# Altium integrated library inductor-nkl.IntLib: 194 symbols
Pins are listed as number, name and electrical type; pins without a type are passive.

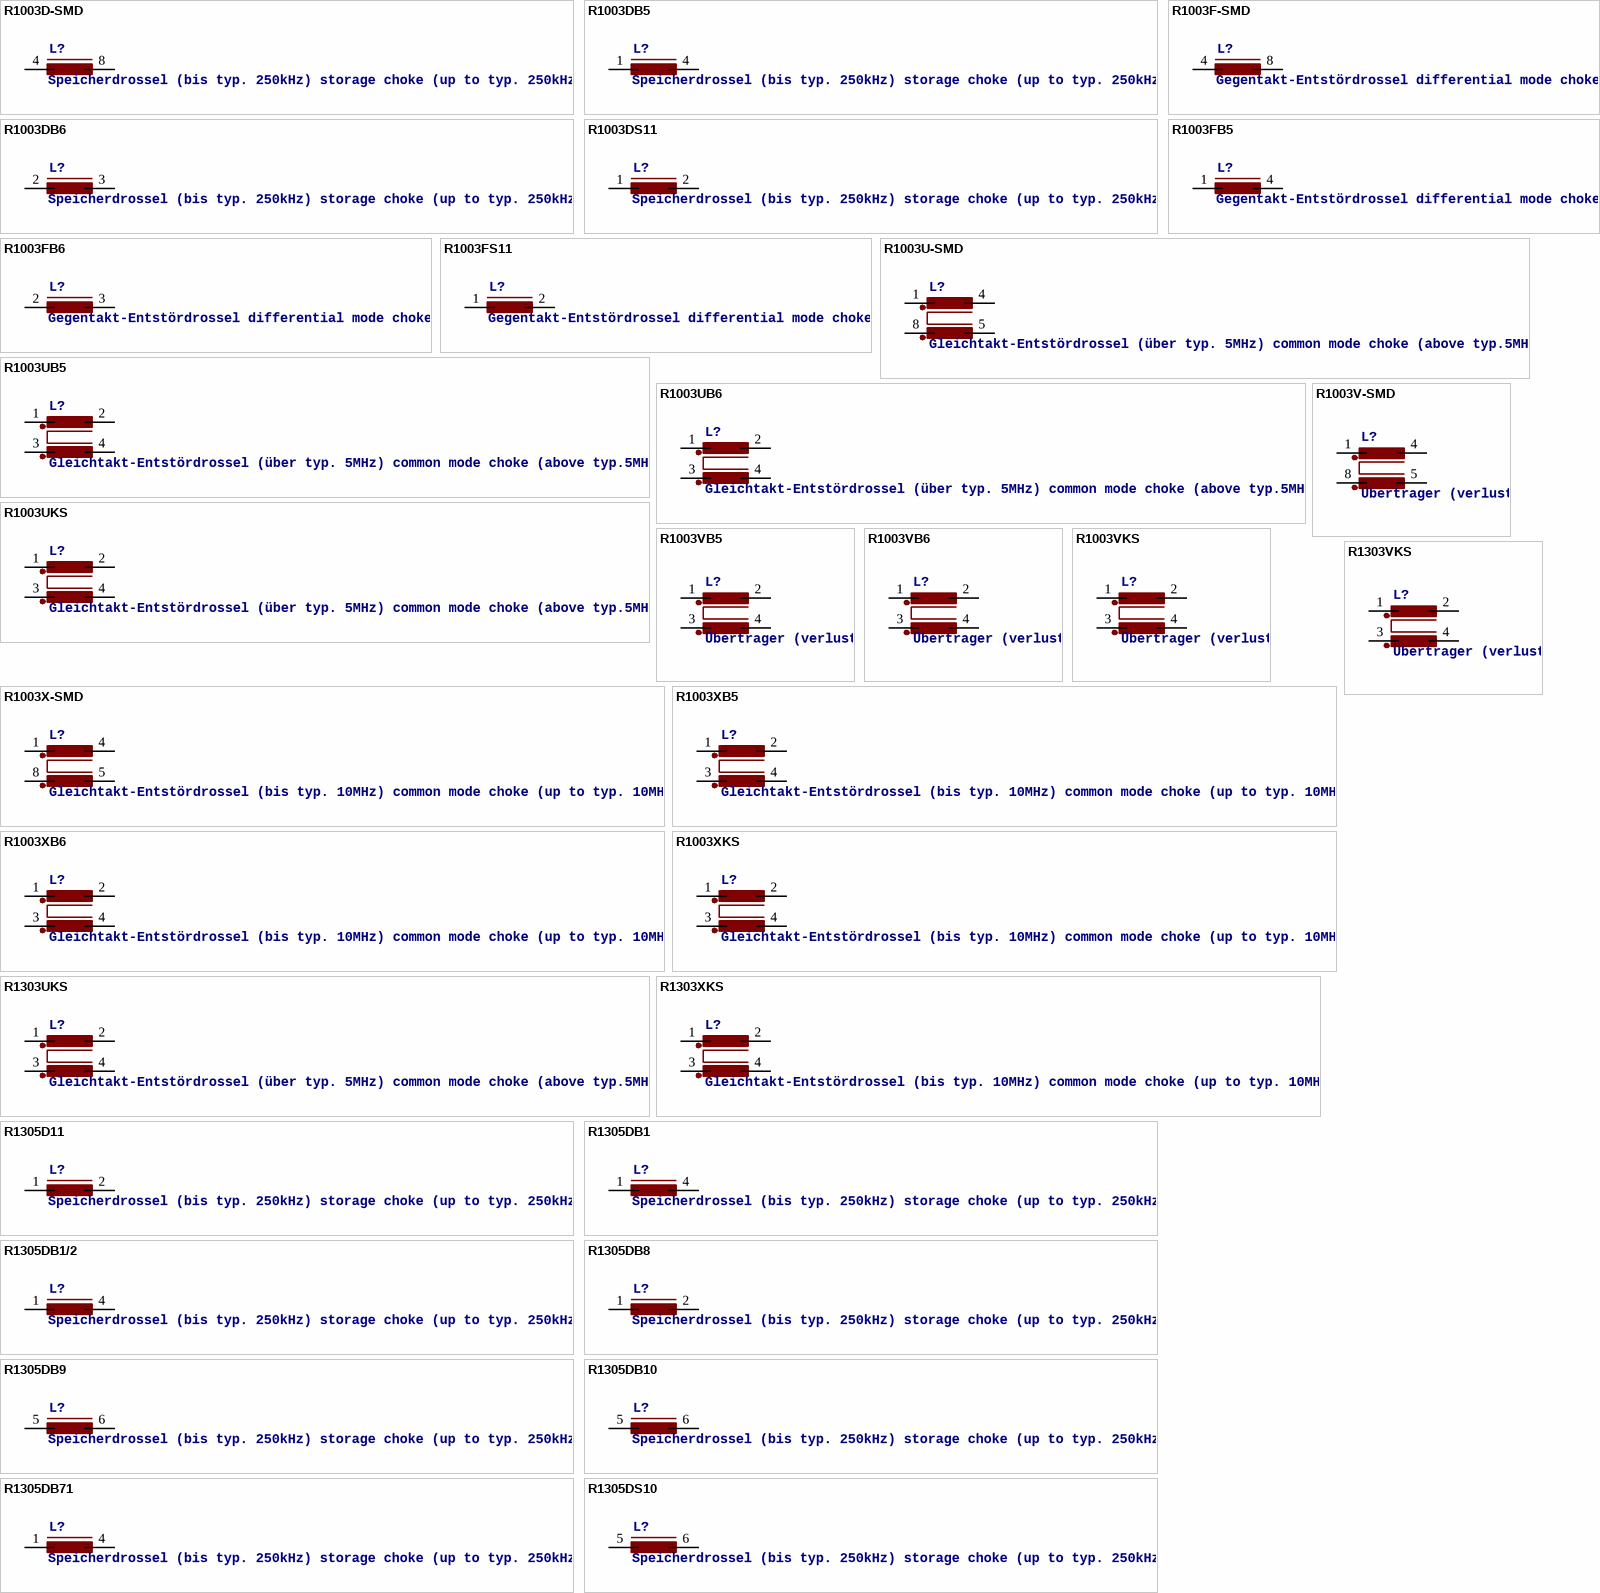
[diagram p0: symbols R1003D-SMD to R1305DS10]

## R1003D-SMD
designator L?, comment Speicherdrossel (bis typ. 250kHz) storage choke (up to typ. 250kHz)
OC_FARNELL: unknown; OC_NEWARK: unknown
footprint SMD
pins: 4 1, 8 2

## R1003DB5
designator L?, comment Speicherdrossel (bis typ. 250kHz) storage choke (up to typ. 250kHz)
OC_FARNELL: unknown; OC_NEWARK: unknown
footprint B5
pins: 1, 4 2

## R1003DB6
designator L?, comment Speicherdrossel (bis typ. 250kHz) storage choke (up to typ. 250kHz)
OC_FARNELL: unknown; OC_NEWARK: unknown
footprint B6
pins: 2 1, 3 2

## R1003DS11
designator L?, comment Speicherdrossel (bis typ. 250kHz) storage choke (up to typ. 250kHz)
OC_FARNELL: unknown; OC_NEWARK: unknown
footprint S11-10
pins: 1, 2

## R1003F-SMD
designator L?, comment Gegentakt-Entstördrossel differential mode choke
OC_FARNELL: unknown; OC_NEWARK: unknown
footprint SMD
pins: 4 1, 8 2

## R1003FB5
designator L?, comment Gegentakt-Entstördrossel differential mode choke
OC_FARNELL: unknown; OC_NEWARK: unknown
footprint B5
pins: 1, 4 2

## R1003FB6
designator L?, comment Gegentakt-Entstördrossel differential mode choke
OC_FARNELL: unknown; OC_NEWARK: unknown
footprint B6
pins: 2 1, 3 2

## R1003FS11
designator L?, comment Gegentakt-Entstördrossel differential mode choke
OC_FARNELL: unknown; OC_NEWARK: unknown
footprint S11-10
pins: 1, 2

## R1003U-SMD
designator L?, comment Gleichtakt-Entstördrossel (über typ. 5MHz) common mode choke (above typ.5MHz)
OC_FARNELL: unknown; OC_NEWARK: unknown
footprint SMD
pins: 1, 4 2, 5 4, 8 3

## R1003UB5
designator L?, comment Gleichtakt-Entstördrossel (über typ. 5MHz) common mode choke (above typ.5MHz)
OC_FARNELL: unknown; OC_NEWARK: unknown
footprint B5
pins: 1, 2, 3, 4

## R1003UB6
designator L?, comment Gleichtakt-Entstördrossel (über typ. 5MHz) common mode choke (above typ.5MHz)
OC_FARNELL: unknown; OC_NEWARK: unknown
footprint B6
pins: 1, 2, 3, 4

## R1003UKS
designator L?, comment Gleichtakt-Entstördrossel (über typ. 5MHz) common mode choke (above typ.5MHz)
OC_FARNELL: unknown; OC_NEWARK: unknown
footprint KS1003
pins: 1, 2, 3, 4

## R1003V-SMD
designator L?, comment Übertrager (verlustarm) bis typ. 400kHz Power transformer (low loss) up to typ. 400kHz
OC_FARNELL: unknown; OC_NEWARK: unknown
footprint SMD
pins: 1, 4 2, 5 4, 8 3

## R1003VB5
designator L?, comment Übertrager (verlustarm) bis typ. 400kHz Power transformer (low loss) up to typ. 400kHz
OC_FARNELL: unknown; OC_NEWARK: unknown
footprint B5
pins: 1, 2, 3, 4

## R1003VB6
designator L?, comment Übertrager (verlustarm) bis typ. 400kHz Power transformer (low loss) up to typ. 400kHz
OC_FARNELL: unknown; OC_NEWARK: unknown
footprint B6
pins: 1, 2, 3, 4

## R1003VKS
designator L?, comment Übertrager (verlustarm) bis typ. 400kHz Power transformer (low loss) up to typ. 400kHz
OC_FARNELL: unknown; OC_NEWARK: unknown
footprint KS1003
pins: 1, 2, 3, 4

## R1003X-SMD
designator L?, comment Gleichtakt-Entstördrossel (bis typ. 10MHz) common mode choke (up to typ. 10MHz)
OC_FARNELL: unknown; OC_NEWARK: unknown
footprint SMD
pins: 1, 4 2, 5 4, 8 3

## R1003XB5
designator L?, comment Gleichtakt-Entstördrossel (bis typ. 10MHz) common mode choke (up to typ. 10MHz)
OC_FARNELL: unknown; OC_NEWARK: unknown
footprint B5
pins: 1, 2, 3, 4

## R1003XB6
designator L?, comment Gleichtakt-Entstördrossel (bis typ. 10MHz) common mode choke (up to typ. 10MHz)
OC_FARNELL: unknown; OC_NEWARK: unknown
footprint B6
pins: 1, 2, 3, 4

## R1003XKS
designator L?, comment Gleichtakt-Entstördrossel (bis typ. 10MHz) common mode choke (up to typ. 10MHz)
OC_FARNELL: unknown; OC_NEWARK: unknown
footprint KS1003
pins: 1, 2, 3, 4

## R1303UKS
designator L?, comment Gleichtakt-Entstördrossel (über typ. 5MHz) common mode choke (above typ.5MHz)
OC_FARNELL: unknown; OC_NEWARK: unknown
footprint KS1303
pins: 1, 2, 3, 4

## R1303VKS
designator L?, comment Übertrager (verlustarm) bis typ. 400kHz Power transformer (low loss) up to typ. 400kHz
OC_FARNELL: unknown; OC_NEWARK: unknown
footprint KS1303
pins: 1, 2, 3, 4

## R1303XKS
designator L?, comment Gleichtakt-Entstördrossel (bis typ. 10MHz) common mode choke (up to typ. 10MHz)
OC_FARNELL: unknown; OC_NEWARK: unknown
footprint KS1303
pins: 1, 2, 3, 4

## R1305D11
designator L?, comment Speicherdrossel (bis typ. 250kHz) storage choke (up to typ. 250kHz)
OC_FARNELL: unknown; OC_NEWARK: unknown
footprint 11-13
pins: 1, 2

## R1305DB1
designator L?, comment Speicherdrossel (bis typ. 250kHz) storage choke (up to typ. 250kHz)
OC_FARNELL: unknown; OC_NEWARK: unknown
footprint B1
pins: 1, 4 2

## R1305DB1/2
designator L?, comment Speicherdrossel (bis typ. 250kHz) storage choke (up to typ. 250kHz)
OC_FARNELL: unknown; OC_NEWARK: unknown
footprint B1/2
pins: 1, 4 2

## R1305DB8
designator L?, comment Speicherdrossel (bis typ. 250kHz) storage choke (up to typ. 250kHz)
OC_FARNELL: unknown; OC_NEWARK: unknown
footprint B8
pins: 1, 2

## R1305DB9
designator L?, comment Speicherdrossel (bis typ. 250kHz) storage choke (up to typ. 250kHz)
OC_FARNELL: unknown; OC_NEWARK: unknown
footprint B9
pins: 5 1, 6 2

## R1305DB10
designator L?, comment Speicherdrossel (bis typ. 250kHz) storage choke (up to typ. 250kHz)
OC_FARNELL: unknown; OC_NEWARK: unknown
footprint B10
pins: 5 1, 6 2

## R1305DB71
designator L?, comment Speicherdrossel (bis typ. 250kHz) storage choke (up to typ. 250kHz)
OC_FARNELL: unknown; OC_NEWARK: unknown
footprint B71
pins: 1, 4 2

## R1305DS10
designator L?, comment Speicherdrossel (bis typ. 250kHz) storage choke (up to typ. 250kHz)
OC_FARNELL: unknown; OC_NEWARK: unknown
footprint S10
pins: 5 1, 6 2

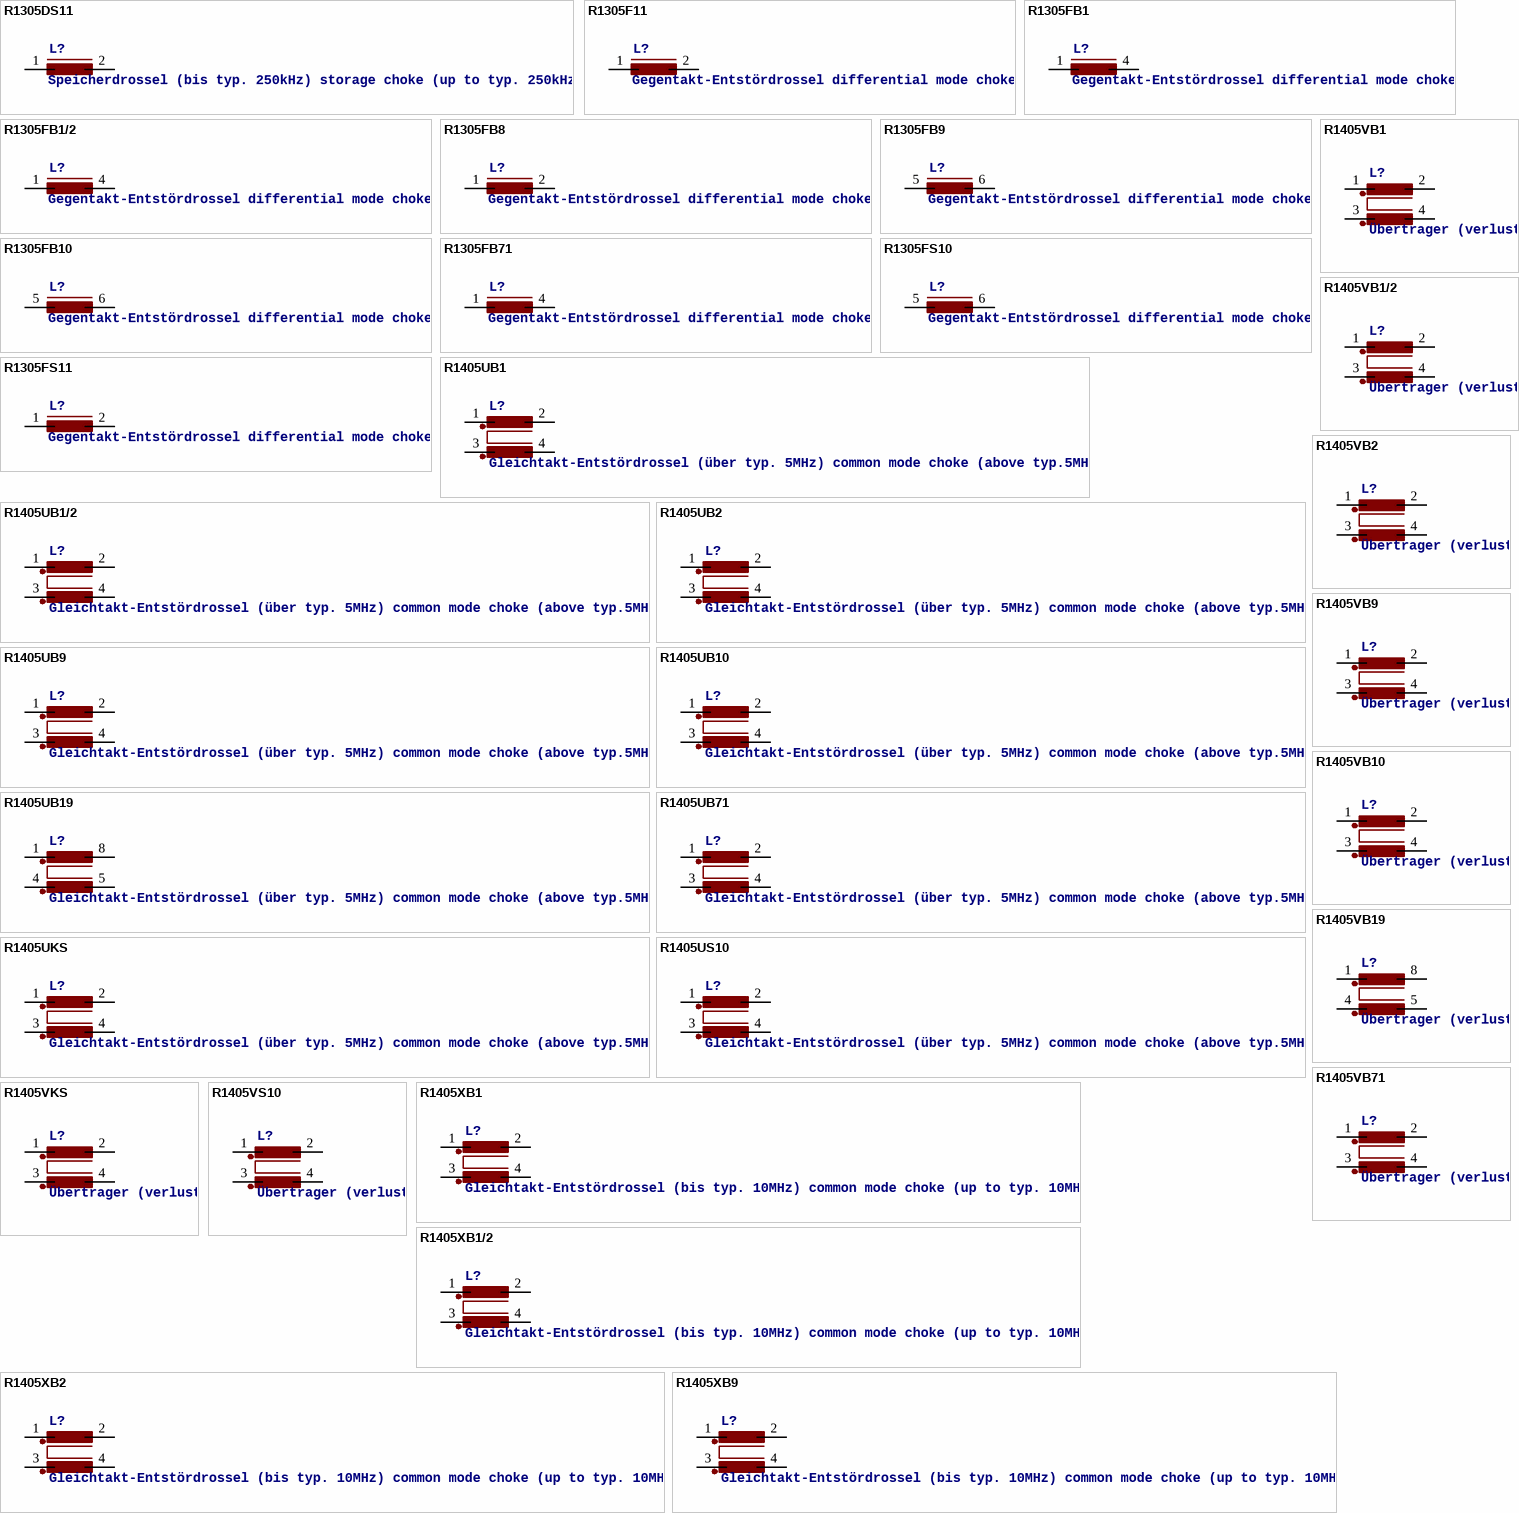
[diagram p1: symbols R1305DS11 to R1405XB9]

## R1305DS11
designator L?, comment Speicherdrossel (bis typ. 250kHz) storage choke (up to typ. 250kHz)
OC_FARNELL: unknown; OC_NEWARK: unknown
footprint S11-13
pins: 1, 2

## R1305F11
designator L?, comment Gegentakt-Entstördrossel differential mode choke
OC_FARNELL: unknown; OC_NEWARK: unknown
footprint 11-13
pins: 1, 2

## R1305FB1
designator L?, comment Gegentakt-Entstördrossel differential mode choke
OC_FARNELL: unknown; OC_NEWARK: unknown
footprint B1
pins: 1, 4 2

## R1305FB1/2
designator L?, comment Gegentakt-Entstördrossel differential mode choke
OC_FARNELL: unknown; OC_NEWARK: unknown
footprint B1/2
pins: 1, 4 2

## R1305FB8
designator L?, comment Gegentakt-Entstördrossel differential mode choke
OC_FARNELL: unknown; OC_NEWARK: unknown
footprint B8
pins: 1, 2

## R1305FB9
designator L?, comment Gegentakt-Entstördrossel differential mode choke
OC_FARNELL: unknown; OC_NEWARK: unknown
footprint B9
pins: 5 1, 6 2

## R1305FB10
designator L?, comment Gegentakt-Entstördrossel differential mode choke
OC_FARNELL: unknown; OC_NEWARK: unknown
footprint B10
pins: 5 1, 6 2

## R1305FB71
designator L?, comment Gegentakt-Entstördrossel differential mode choke
OC_FARNELL: unknown; OC_NEWARK: unknown
footprint B71
pins: 1, 4 2

## R1305FS10
designator L?, comment Gegentakt-Entstördrossel differential mode choke
OC_FARNELL: unknown; OC_NEWARK: unknown
footprint S10
pins: 5 1, 6 2

## R1305FS11
designator L?, comment Gegentakt-Entstördrossel differential mode choke
OC_FARNELL: unknown; OC_NEWARK: unknown
footprint S11-13
pins: 1, 2

## R1405UB1
designator L?, comment Gleichtakt-Entstördrossel (über typ. 5MHz) common mode choke (above typ.5MHz)
OC_FARNELL: unknown; OC_NEWARK: unknown
footprint B1
pins: 1, 2, 3, 4

## R1405UB1/2
designator L?, comment Gleichtakt-Entstördrossel (über typ. 5MHz) common mode choke (above typ.5MHz)
OC_FARNELL: unknown; OC_NEWARK: unknown
footprint B1/2
pins: 1, 2, 3, 4

## R1405UB2
designator L?, comment Gleichtakt-Entstördrossel (über typ. 5MHz) common mode choke (above typ.5MHz)
OC_FARNELL: unknown; OC_NEWARK: unknown
footprint B2
pins: 1, 2, 3, 4

## R1405UB9
designator L?, comment Gleichtakt-Entstördrossel (über typ. 5MHz) common mode choke (above typ.5MHz)
OC_FARNELL: unknown; OC_NEWARK: unknown
footprint B9
pins: 1, 2, 3, 4

## R1405UB10
designator L?, comment Gleichtakt-Entstördrossel (über typ. 5MHz) common mode choke (above typ.5MHz)
OC_FARNELL: unknown; OC_NEWARK: unknown
footprint B10
pins: 1, 2, 3, 4

## R1405UB19
designator L?, comment Gleichtakt-Entstördrossel (über typ. 5MHz) common mode choke (above typ.5MHz)
OC_FARNELL: unknown; OC_NEWARK: unknown
footprint B19
pins: 1, 4 3, 5 4, 8 2

## R1405UB71
designator L?, comment Gleichtakt-Entstördrossel (über typ. 5MHz) common mode choke (above typ.5MHz)
OC_FARNELL: unknown; OC_NEWARK: unknown
footprint B71
pins: 1, 2, 3, 4

## R1405UKS
designator L?, comment Gleichtakt-Entstördrossel (über typ. 5MHz) common mode choke (above typ.5MHz)
OC_FARNELL: unknown; OC_NEWARK: unknown
footprint KS1405
pins: 1, 2, 3, 4

## R1405US10
designator L?, comment Gleichtakt-Entstördrossel (über typ. 5MHz) common mode choke (above typ.5MHz)
OC_FARNELL: unknown; OC_NEWARK: unknown
footprint S10
pins: 1, 2, 3, 4

## R1405VB1
designator L?, comment Übertrager (verlustarm) bis typ. 400kHz Power transformer (low loss) up to typ. 400kHz
OC_FARNELL: unknown; OC_NEWARK: unknown
footprint B1
pins: 1, 2, 3, 4

## R1405VB1/2
designator L?, comment Übertrager (verlustarm) bis typ. 400kHz Power transformer (low loss) up to typ. 400kHz
OC_FARNELL: unknown; OC_NEWARK: unknown
footprint B1/2
pins: 1, 2, 3, 4

## R1405VB2
designator L?, comment Übertrager (verlustarm) bis typ. 400kHz Power transformer (low loss) up to typ. 400kHz
OC_FARNELL: unknown; OC_NEWARK: unknown
footprint B2
pins: 1, 2, 3, 4

## R1405VB9
designator L?, comment Übertrager (verlustarm) bis typ. 400kHz Power transformer (low loss) up to typ. 400kHz
OC_FARNELL: unknown; OC_NEWARK: unknown
footprint B9
pins: 1, 2, 3, 4

## R1405VB10
designator L?, comment Übertrager (verlustarm) bis typ. 400kHz Power transformer (low loss) up to typ. 400kHz
OC_FARNELL: unknown; OC_NEWARK: unknown
footprint B10
pins: 1, 2, 3, 4

## R1405VB19
designator L?, comment Übertrager (verlustarm) bis typ. 400kHz Power transformer (low loss) up to typ. 400kHz
OC_FARNELL: unknown; OC_NEWARK: unknown
footprint B19
pins: 1, 4 3, 5 4, 8 2

## R1405VB71
designator L?, comment Übertrager (verlustarm) bis typ. 400kHz Power transformer (low loss) up to typ. 400kHz
OC_FARNELL: unknown; OC_NEWARK: unknown
footprint B71
pins: 1, 2, 3, 4

## R1405VKS
designator L?, comment Übertrager (verlustarm) bis typ. 400kHz Power transformer (low loss) up to typ. 400kHz
OC_FARNELL: unknown; OC_NEWARK: unknown
footprint KS1405
pins: 1, 2, 3, 4

## R1405VS10
designator L?, comment Übertrager (verlustarm) bis typ. 400kHz Power transformer (low loss) up to typ. 400kHz
OC_FARNELL: unknown; OC_NEWARK: unknown
footprint S10
pins: 1, 2, 3, 4

## R1405XB1
designator L?, comment Gleichtakt-Entstördrossel (bis typ. 10MHz) common mode choke (up to typ. 10MHz)
OC_FARNELL: unknown; OC_NEWARK: unknown
footprint B1
pins: 1, 2, 3, 4

## R1405XB1/2
designator L?, comment Gleichtakt-Entstördrossel (bis typ. 10MHz) common mode choke (up to typ. 10MHz)
OC_FARNELL: unknown; OC_NEWARK: unknown
footprint B1/2
pins: 1, 2, 3, 4

## R1405XB2
designator L?, comment Gleichtakt-Entstördrossel (bis typ. 10MHz) common mode choke (up to typ. 10MHz)
OC_FARNELL: unknown; OC_NEWARK: unknown
footprint B2
pins: 1, 2, 3, 4

## R1405XB9
designator L?, comment Gleichtakt-Entstördrossel (bis typ. 10MHz) common mode choke (up to typ. 10MHz)
OC_FARNELL: unknown; OC_NEWARK: unknown
footprint B9
pins: 1, 2, 3, 4

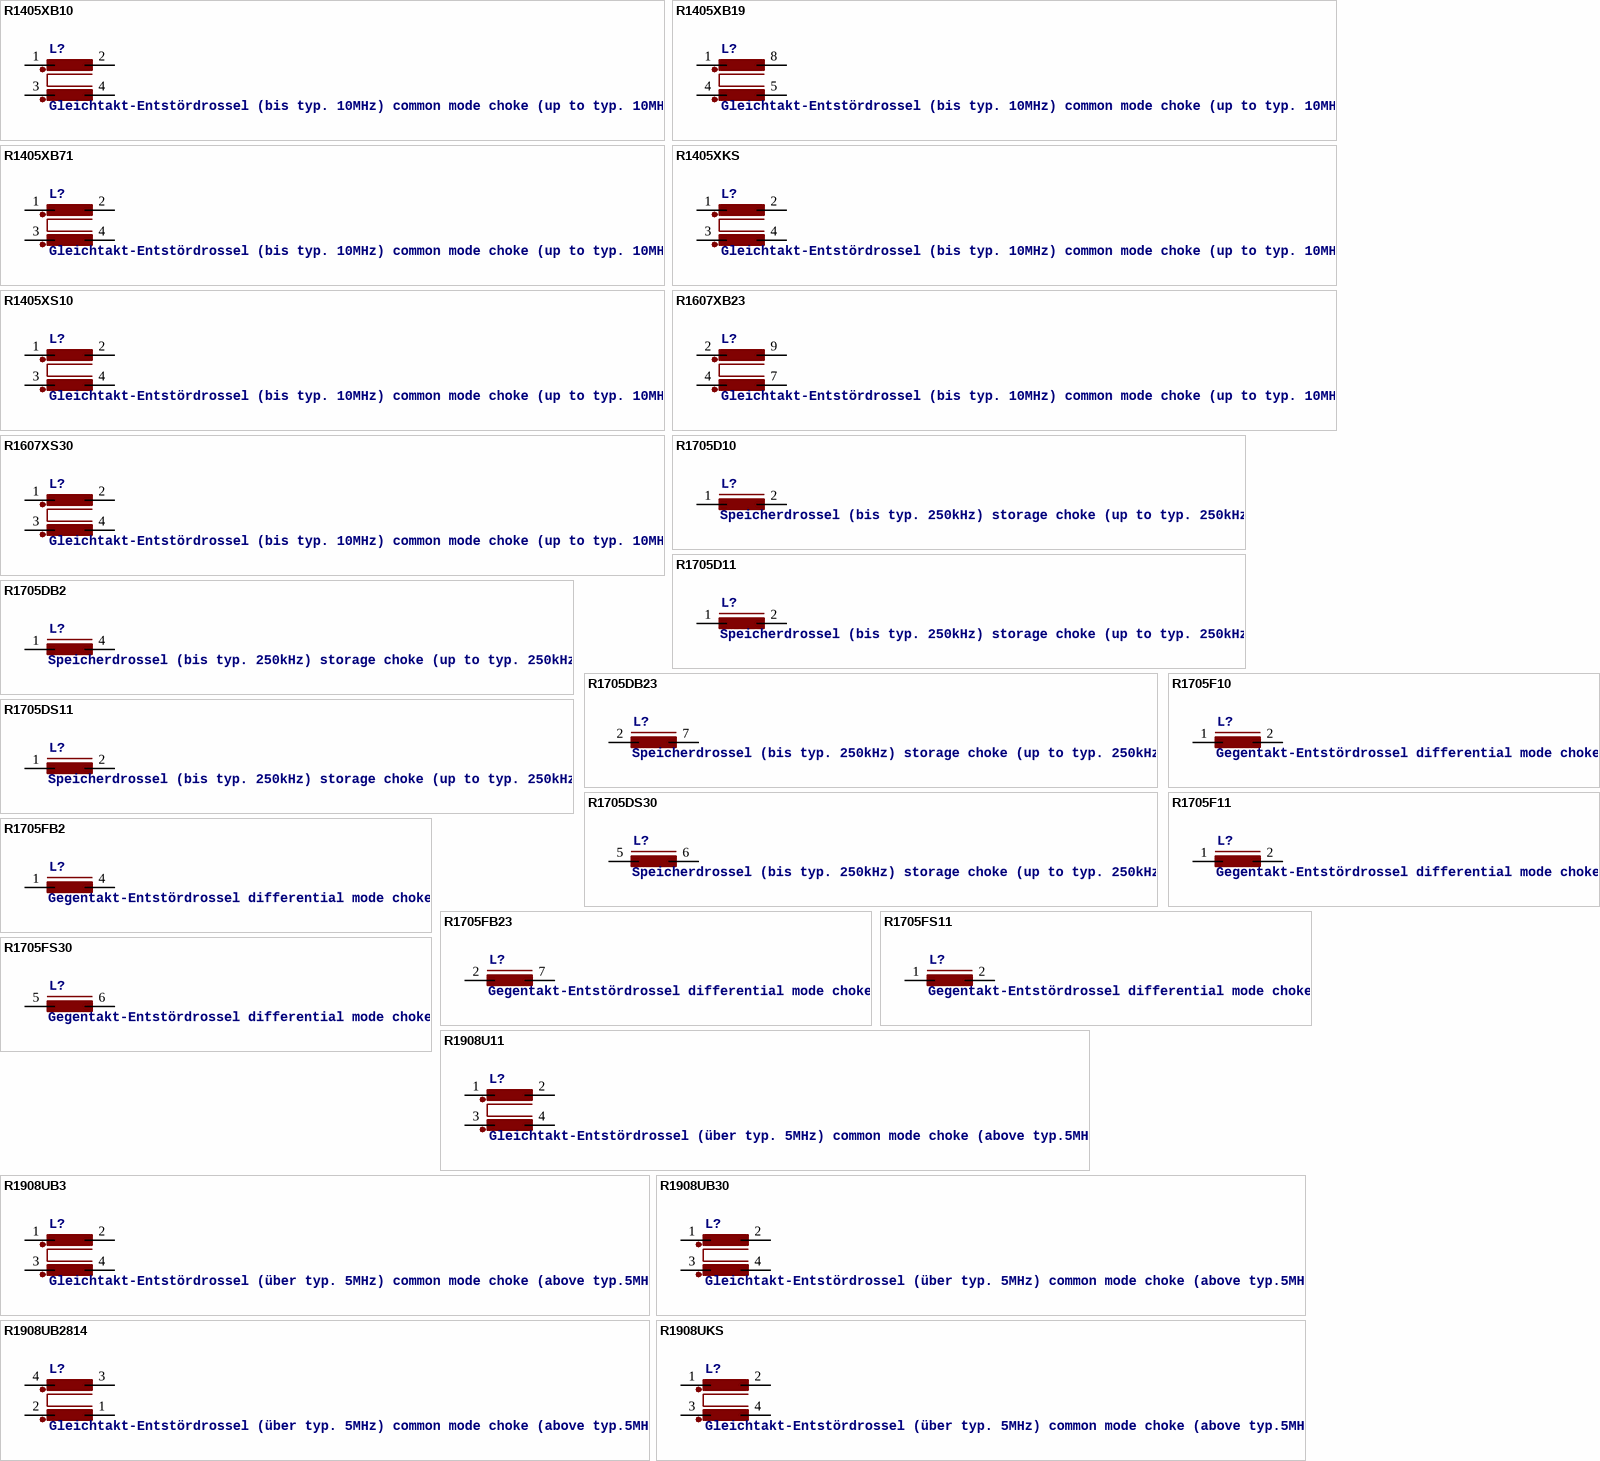
[diagram p2: symbols R1405XB10 to R1908UKS]

## R1405XB10
designator L?, comment Gleichtakt-Entstördrossel (bis typ. 10MHz) common mode choke (up to typ. 10MHz)
OC_FARNELL: unknown; OC_NEWARK: unknown
footprint B10
pins: 1, 2, 3, 4

## R1405XB19
designator L?, comment Gleichtakt-Entstördrossel (bis typ. 10MHz) common mode choke (up to typ. 10MHz)
OC_FARNELL: unknown; OC_NEWARK: unknown
footprint B19
pins: 1, 4 3, 5 4, 8 2

## R1405XB71
designator L?, comment Gleichtakt-Entstördrossel (bis typ. 10MHz) common mode choke (up to typ. 10MHz)
OC_FARNELL: unknown; OC_NEWARK: unknown
footprint B71
pins: 1, 2, 3, 4

## R1405XKS
designator L?, comment Gleichtakt-Entstördrossel (bis typ. 10MHz) common mode choke (up to typ. 10MHz)
OC_FARNELL: unknown; OC_NEWARK: unknown
footprint KS1405
pins: 1, 2, 3, 4

## R1405XS10
designator L?, comment Gleichtakt-Entstördrossel (bis typ. 10MHz) common mode choke (up to typ. 10MHz)
OC_FARNELL: unknown; OC_NEWARK: unknown
footprint S10
pins: 1, 2, 3, 4

## R1607XB23
designator L?, comment Gleichtakt-Entstördrossel (bis typ. 10MHz) common mode choke (up to typ. 10MHz)
OC_FARNELL: unknown; OC_NEWARK: unknown
footprint B23
pins: 2 1, 4 3, 7 4, 9 2

## R1607XS30
designator L?, comment Gleichtakt-Entstördrossel (bis typ. 10MHz) common mode choke (up to typ. 10MHz)
OC_FARNELL: unknown; OC_NEWARK: unknown
footprint S30
pins: 1, 2, 3, 4

## R1705D10
designator L?, comment Speicherdrossel (bis typ. 250kHz) storage choke (up to typ. 250kHz)
OC_FARNELL: unknown; OC_NEWARK: unknown
footprint 10-17
pins: 1, 2

## R1705D11
designator L?, comment Speicherdrossel (bis typ. 250kHz) storage choke (up to typ. 250kHz)
OC_FARNELL: unknown; OC_NEWARK: unknown
footprint 11-17
pins: 1, 2

## R1705DB2
designator L?, comment Speicherdrossel (bis typ. 250kHz) storage choke (up to typ. 250kHz)
OC_FARNELL: unknown; OC_NEWARK: unknown
footprint B2
pins: 1, 4 2

## R1705DB23
designator L?, comment Speicherdrossel (bis typ. 250kHz) storage choke (up to typ. 250kHz)
OC_FARNELL: unknown; OC_NEWARK: unknown
footprint B23
pins: 2 1, 7 2

## R1705DS11
designator L?, comment Speicherdrossel (bis typ. 250kHz) storage choke (up to typ. 250kHz)
OC_FARNELL: unknown; OC_NEWARK: unknown
footprint S11-17
pins: 1, 2

## R1705DS30
designator L?, comment Speicherdrossel (bis typ. 250kHz) storage choke (up to typ. 250kHz)
OC_FARNELL: unknown; OC_NEWARK: unknown
footprint S30
pins: 5 1, 6 2

## R1705F10
designator L?, comment Gegentakt-Entstördrossel differential mode choke
OC_FARNELL: unknown; OC_NEWARK: unknown
footprint 10-17
pins: 1, 2

## R1705F11
designator L?, comment Gegentakt-Entstördrossel differential mode choke
OC_FARNELL: unknown; OC_NEWARK: unknown
footprint 11-17
pins: 1, 2

## R1705FB2
designator L?, comment Gegentakt-Entstördrossel differential mode choke
OC_FARNELL: unknown; OC_NEWARK: unknown
footprint B2
pins: 1, 4 2

## R1705FB23
designator L?, comment Gegentakt-Entstördrossel differential mode choke
OC_FARNELL: unknown; OC_NEWARK: unknown
footprint B23
pins: 2 1, 7 2

## R1705FS11
designator L?, comment Gegentakt-Entstördrossel differential mode choke
OC_FARNELL: unknown; OC_NEWARK: unknown
footprint S11-17
pins: 1, 2

## R1705FS30
designator L?, comment Gegentakt-Entstördrossel differential mode choke
OC_FARNELL: unknown; OC_NEWARK: unknown
footprint S30
pins: 5 1, 6 2

## R1908U11
designator L?, comment Gleichtakt-Entstördrossel (über typ. 5MHz) common mode choke (above typ.5MHz)
OC_FARNELL: unknown; OC_NEWARK: unknown
footprint 11-19
pins: 1, 2, 3, 4

## R1908UB3
designator L?, comment Gleichtakt-Entstördrossel (über typ. 5MHz) common mode choke (above typ.5MHz)
OC_FARNELL: unknown; OC_NEWARK: unknown
footprint B3
pins: 1, 2, 3, 4

## R1908UB30
designator L?, comment Gleichtakt-Entstördrossel (über typ. 5MHz) common mode choke (above typ.5MHz)
OC_FARNELL: unknown; OC_NEWARK: unknown
footprint B30
pins: 1, 2, 3, 4

## R1908UB2814
designator L?, comment Gleichtakt-Entstördrossel (über typ. 5MHz) common mode choke (above typ.5MHz)
OC_FARNELL: unknown; OC_NEWARK: unknown
footprint B2814
pins: 1 4, 2 3, 3 2, 4 1

## R1908UKS
designator L?, comment Gleichtakt-Entstördrossel (über typ. 5MHz) common mode choke (above typ.5MHz)
OC_FARNELL: unknown; OC_NEWARK: unknown
footprint KS1908
pins: 1, 2, 3, 4

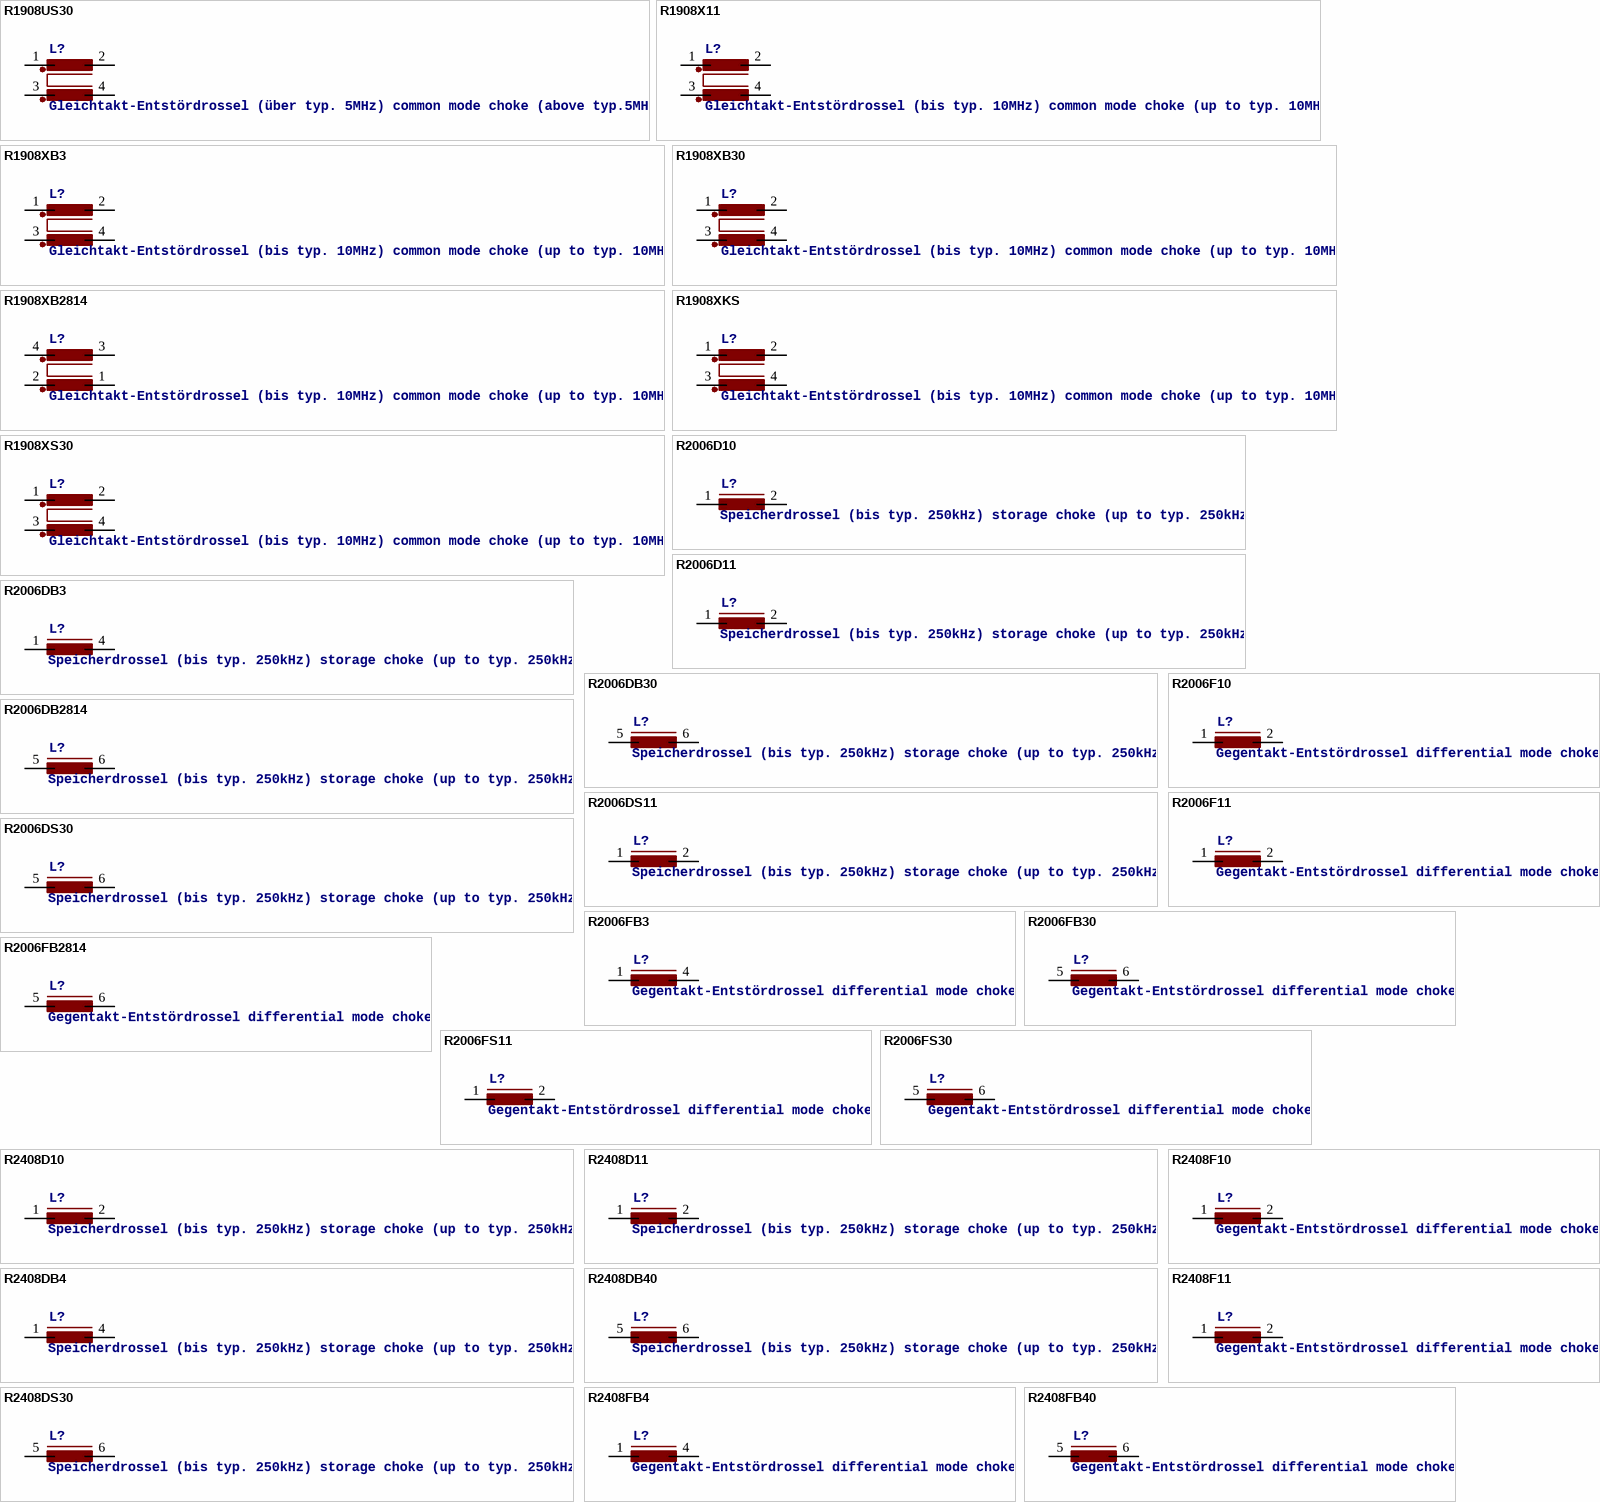
[diagram p3: symbols R1908US30 to R2408FB40]

## R1908US30
designator L?, comment Gleichtakt-Entstördrossel (über typ. 5MHz) common mode choke (above typ.5MHz)
OC_FARNELL: unknown; OC_NEWARK: unknown
footprint S30
pins: 1, 2, 3, 4

## R1908X11
designator L?, comment Gleichtakt-Entstördrossel (bis typ. 10MHz) common mode choke (up to typ. 10MHz)
OC_FARNELL: unknown; OC_NEWARK: unknown
footprint 11-19
pins: 1, 2, 3, 4

## R1908XB3
designator L?, comment Gleichtakt-Entstördrossel (bis typ. 10MHz) common mode choke (up to typ. 10MHz)
OC_FARNELL: unknown; OC_NEWARK: unknown
footprint B3
pins: 1, 2, 3, 4

## R1908XB30
designator L?, comment Gleichtakt-Entstördrossel (bis typ. 10MHz) common mode choke (up to typ. 10MHz)
OC_FARNELL: unknown; OC_NEWARK: unknown
footprint B30
pins: 1, 2, 3, 4

## R1908XB2814
designator L?, comment Gleichtakt-Entstördrossel (bis typ. 10MHz) common mode choke (up to typ. 10MHz)
OC_FARNELL: unknown; OC_NEWARK: unknown
footprint B2814
pins: 1 4, 2 3, 3 2, 4 1

## R1908XKS
designator L?, comment Gleichtakt-Entstördrossel (bis typ. 10MHz) common mode choke (up to typ. 10MHz)
OC_FARNELL: unknown; OC_NEWARK: unknown
footprint KS1908
pins: 1, 2, 3, 4

## R1908XS30
designator L?, comment Gleichtakt-Entstördrossel (bis typ. 10MHz) common mode choke (up to typ. 10MHz)
OC_FARNELL: unknown; OC_NEWARK: unknown
footprint S30
pins: 1, 2, 3, 4

## R2006D10
designator L?, comment Speicherdrossel (bis typ. 250kHz) storage choke (up to typ. 250kHz)
OC_FARNELL: unknown; OC_NEWARK: unknown
footprint 10-20
pins: 1, 2

## R2006D11
designator L?, comment Speicherdrossel (bis typ. 250kHz) storage choke (up to typ. 250kHz)
OC_FARNELL: unknown; OC_NEWARK: unknown
footprint 11-20
pins: 1, 2

## R2006DB3
designator L?, comment Speicherdrossel (bis typ. 250kHz) storage choke (up to typ. 250kHz)
OC_FARNELL: unknown; OC_NEWARK: unknown
footprint B3
pins: 1, 4 2

## R2006DB30
designator L?, comment Speicherdrossel (bis typ. 250kHz) storage choke (up to typ. 250kHz)
OC_FARNELL: unknown; OC_NEWARK: unknown
footprint B30
pins: 5 1, 6 2

## R2006DB2814
designator L?, comment Speicherdrossel (bis typ. 250kHz) storage choke (up to typ. 250kHz)
OC_FARNELL: unknown; OC_NEWARK: unknown
footprint B2814
pins: 5 1, 6 2

## R2006DS11
designator L?, comment Speicherdrossel (bis typ. 250kHz) storage choke (up to typ. 250kHz)
OC_FARNELL: unknown; OC_NEWARK: unknown
footprint S11-20
pins: 1, 2

## R2006DS30
designator L?, comment Speicherdrossel (bis typ. 250kHz) storage choke (up to typ. 250kHz)
OC_FARNELL: unknown; OC_NEWARK: unknown
footprint S30
pins: 5 1, 6 2

## R2006F10
designator L?, comment Gegentakt-Entstördrossel differential mode choke
OC_FARNELL: unknown; OC_NEWARK: unknown
footprint 10-20
pins: 1, 2

## R2006F11
designator L?, comment Gegentakt-Entstördrossel differential mode choke
OC_FARNELL: unknown; OC_NEWARK: unknown
footprint 11-20
pins: 1, 2

## R2006FB3
designator L?, comment Gegentakt-Entstördrossel differential mode choke
OC_FARNELL: unknown; OC_NEWARK: unknown
footprint B3
pins: 1, 4 2

## R2006FB30
designator L?, comment Gegentakt-Entstördrossel differential mode choke
OC_FARNELL: unknown; OC_NEWARK: unknown
footprint B30
pins: 5 1, 6 2

## R2006FB2814
designator L?, comment Gegentakt-Entstördrossel differential mode choke
OC_FARNELL: unknown; OC_NEWARK: unknown
footprint B2814
pins: 5 1, 6 2

## R2006FS11
designator L?, comment Gegentakt-Entstördrossel differential mode choke
OC_FARNELL: unknown; OC_NEWARK: unknown
footprint S11-20
pins: 1, 2

## R2006FS30
designator L?, comment Gegentakt-Entstördrossel differential mode choke
OC_FARNELL: unknown; OC_NEWARK: unknown
footprint S30
pins: 5 1, 6 2

## R2408D10
designator L?, comment Speicherdrossel (bis typ. 250kHz) storage choke (up to typ. 250kHz)
OC_FARNELL: unknown; OC_NEWARK: unknown
footprint 10-24
pins: 1, 2

## R2408D11
designator L?, comment Speicherdrossel (bis typ. 250kHz) storage choke (up to typ. 250kHz)
OC_FARNELL: unknown; OC_NEWARK: unknown
footprint 11-24
pins: 1, 2

## R2408DB4
designator L?, comment Speicherdrossel (bis typ. 250kHz) storage choke (up to typ. 250kHz)
OC_FARNELL: unknown; OC_NEWARK: unknown
footprint B4
pins: 1, 4 2

## R2408DB40
designator L?, comment Speicherdrossel (bis typ. 250kHz) storage choke (up to typ. 250kHz)
OC_FARNELL: unknown; OC_NEWARK: unknown
footprint B40
pins: 5 1, 6 2

## R2408DS30
designator L?, comment Speicherdrossel (bis typ. 250kHz) storage choke (up to typ. 250kHz)
OC_FARNELL: unknown; OC_NEWARK: unknown
footprint S30
pins: 5 1, 6 2

## R2408F10
designator L?, comment Gegentakt-Entstördrossel differential mode choke
OC_FARNELL: unknown; OC_NEWARK: unknown
footprint 10-24
pins: 1, 2

## R2408F11
designator L?, comment Gegentakt-Entstördrossel differential mode choke
OC_FARNELL: unknown; OC_NEWARK: unknown
footprint 11-24
pins: 1, 2

## R2408FB4
designator L?, comment Gegentakt-Entstördrossel differential mode choke
OC_FARNELL: unknown; OC_NEWARK: unknown
footprint B4
pins: 1, 4 2

## R2408FB40
designator L?, comment Gegentakt-Entstördrossel differential mode choke
OC_FARNELL: unknown; OC_NEWARK: unknown
footprint B40
pins: 5 1, 6 2

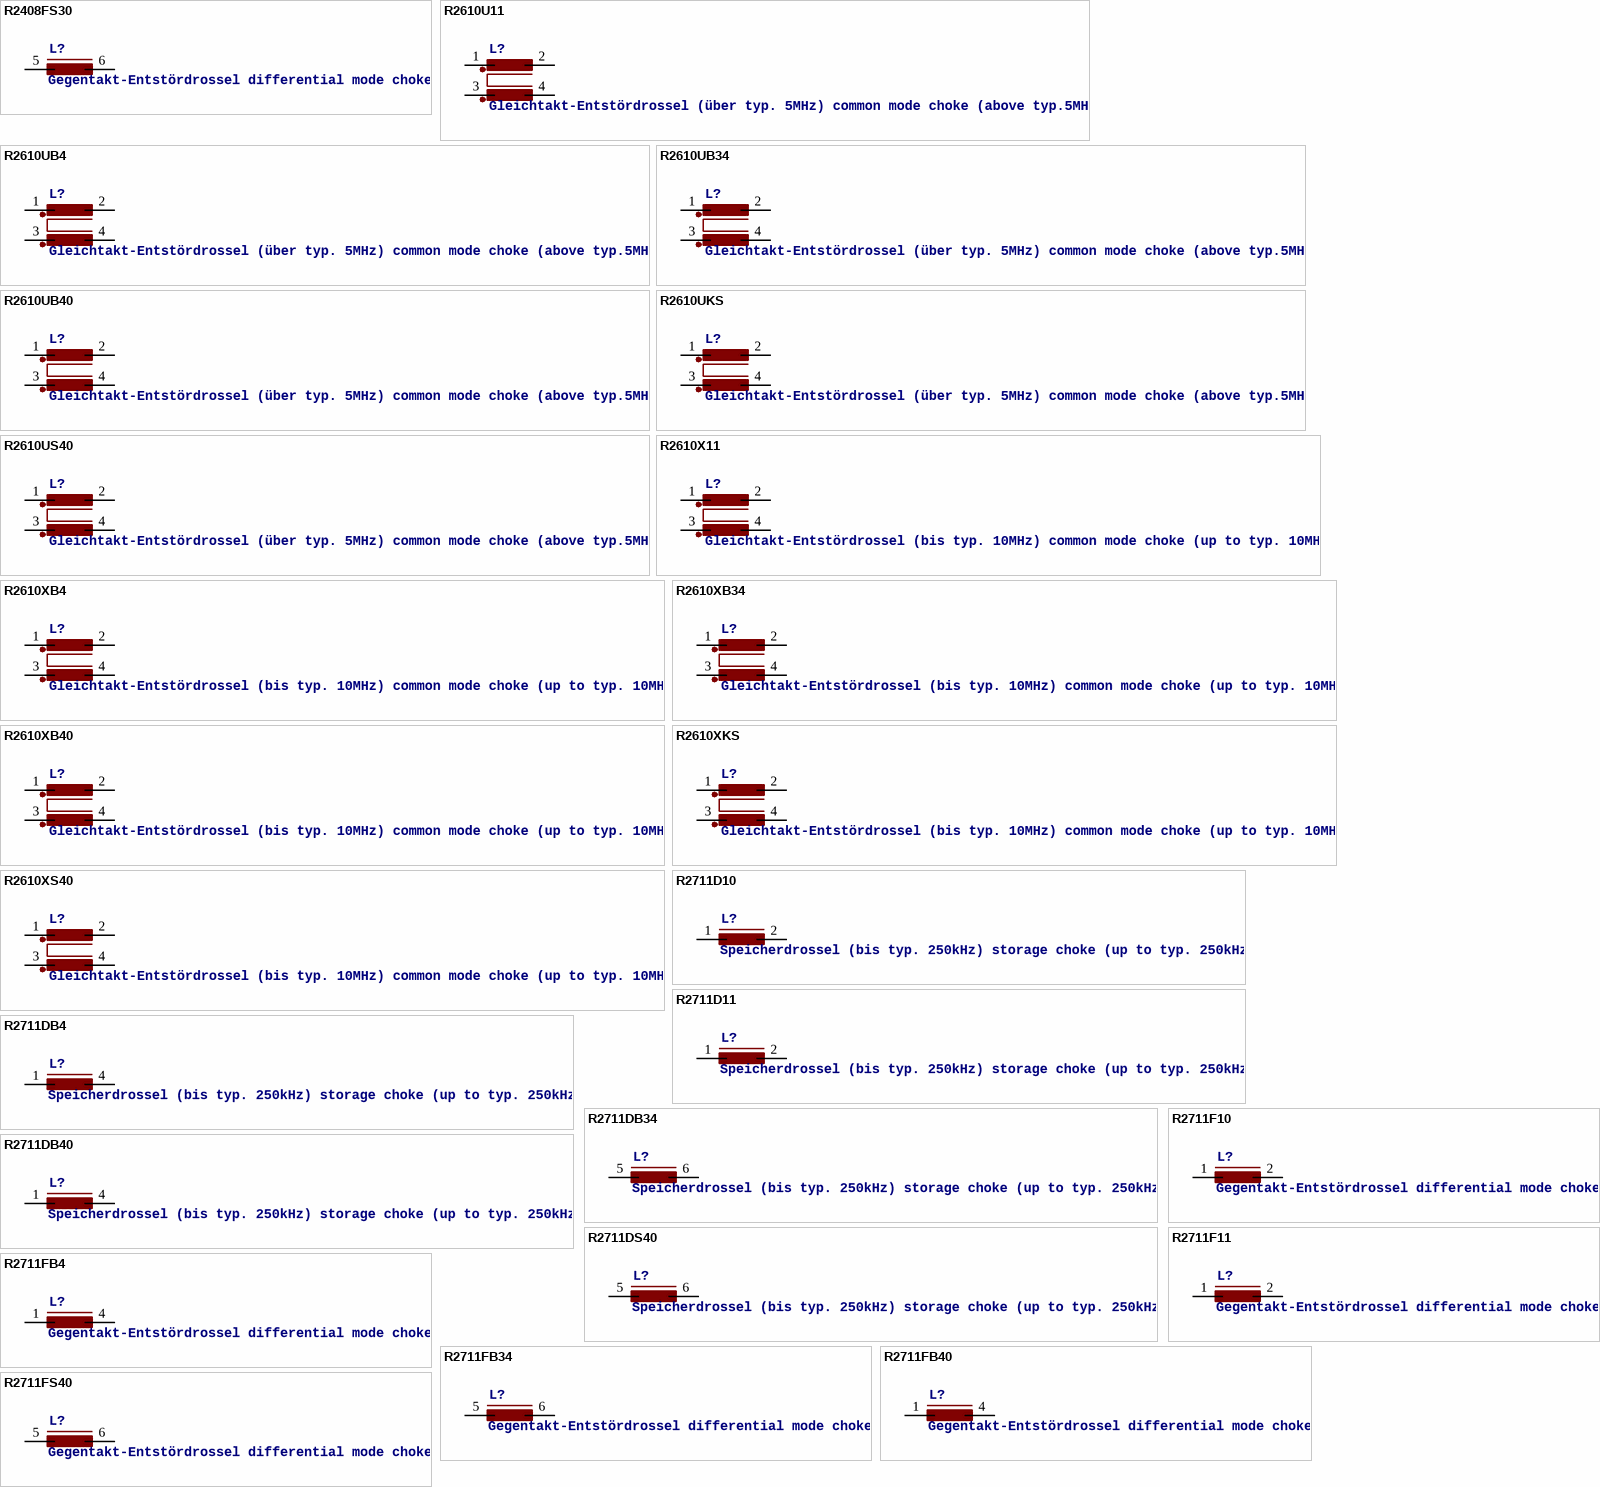
[diagram p4: symbols R2408FS30 to R2711FS40]

## R2408FS30
designator L?, comment Gegentakt-Entstördrossel differential mode choke
OC_FARNELL: unknown; OC_NEWARK: unknown
footprint S30
pins: 5 1, 6 2

## R2610U11
designator L?, comment Gleichtakt-Entstördrossel (über typ. 5MHz) common mode choke (above typ.5MHz)
OC_FARNELL: unknown; OC_NEWARK: unknown
footprint 11-26
pins: 1, 2, 3, 4

## R2610UB4
designator L?, comment Gleichtakt-Entstördrossel (über typ. 5MHz) common mode choke (above typ.5MHz)
OC_FARNELL: unknown; OC_NEWARK: unknown
footprint B4
pins: 1, 2, 3, 4

## R2610UB34
designator L?, comment Gleichtakt-Entstördrossel (über typ. 5MHz) common mode choke (above typ.5MHz)
OC_FARNELL: unknown; OC_NEWARK: unknown
footprint B34
pins: 1, 2, 3, 4

## R2610UB40
designator L?, comment Gleichtakt-Entstördrossel (über typ. 5MHz) common mode choke (above typ.5MHz)
OC_FARNELL: unknown; OC_NEWARK: unknown
footprint B40
pins: 1, 2, 3, 4

## R2610UKS
designator L?, comment Gleichtakt-Entstördrossel (über typ. 5MHz) common mode choke (above typ.5MHz)
OC_FARNELL: unknown; OC_NEWARK: unknown
footprint KS2610
pins: 1, 2, 3, 4

## R2610US40
designator L?, comment Gleichtakt-Entstördrossel (über typ. 5MHz) common mode choke (above typ.5MHz)
OC_FARNELL: unknown; OC_NEWARK: unknown
footprint S40
pins: 1, 2, 3, 4

## R2610X11
designator L?, comment Gleichtakt-Entstördrossel (bis typ. 10MHz) common mode choke (up to typ. 10MHz)
OC_FARNELL: unknown; OC_NEWARK: unknown
footprint 11-26
pins: 1, 2, 3, 4

## R2610XB4
designator L?, comment Gleichtakt-Entstördrossel (bis typ. 10MHz) common mode choke (up to typ. 10MHz)
OC_FARNELL: unknown; OC_NEWARK: unknown
footprint B4
pins: 1, 2, 3, 4

## R2610XB34
designator L?, comment Gleichtakt-Entstördrossel (bis typ. 10MHz) common mode choke (up to typ. 10MHz)
OC_FARNELL: unknown; OC_NEWARK: unknown
footprint B34
pins: 1, 2, 3, 4

## R2610XB40
designator L?, comment Gleichtakt-Entstördrossel (bis typ. 10MHz) common mode choke (up to typ. 10MHz)
OC_FARNELL: unknown; OC_NEWARK: unknown
footprint B40
pins: 1, 2, 3, 4

## R2610XKS
designator L?, comment Gleichtakt-Entstördrossel (bis typ. 10MHz) common mode choke (up to typ. 10MHz)
OC_FARNELL: unknown; OC_NEWARK: unknown
footprint KS2610
pins: 1, 2, 3, 4

## R2610XS40
designator L?, comment Gleichtakt-Entstördrossel (bis typ. 10MHz) common mode choke (up to typ. 10MHz)
OC_FARNELL: unknown; OC_NEWARK: unknown
footprint S40
pins: 1, 2, 3, 4

## R2711D10
designator L?, comment Speicherdrossel (bis typ. 250kHz) storage choke (up to typ. 250kHz)
OC_FARNELL: unknown; OC_NEWARK: unknown
footprint 10-27
pins: 1, 2

## R2711D11
designator L?, comment Speicherdrossel (bis typ. 250kHz) storage choke (up to typ. 250kHz)
OC_FARNELL: unknown; OC_NEWARK: unknown
footprint 11-27
pins: 1, 2

## R2711DB4
designator L?, comment Speicherdrossel (bis typ. 250kHz) storage choke (up to typ. 250kHz)
OC_FARNELL: unknown; OC_NEWARK: unknown
footprint B4
pins: 1, 4 2

## R2711DB34
designator L?, comment Speicherdrossel (bis typ. 250kHz) storage choke (up to typ. 250kHz)
OC_FARNELL: unknown; OC_NEWARK: unknown
footprint B34
pins: 5 1, 6 2

## R2711DB40
designator L?, comment Speicherdrossel (bis typ. 250kHz) storage choke (up to typ. 250kHz)
OC_FARNELL: unknown; OC_NEWARK: unknown
footprint B40
pins: 1, 4 2

## R2711DS40
designator L?, comment Speicherdrossel (bis typ. 250kHz) storage choke (up to typ. 250kHz)
OC_FARNELL: unknown; OC_NEWARK: unknown
footprint S40
pins: 5 1, 6 2

## R2711F10
designator L?, comment Gegentakt-Entstördrossel differential mode choke
OC_FARNELL: unknown; OC_NEWARK: unknown
footprint 10-27
pins: 1, 2

## R2711F11
designator L?, comment Gegentakt-Entstördrossel differential mode choke
OC_FARNELL: unknown; OC_NEWARK: unknown
footprint 11-27
pins: 1, 2

## R2711FB4
designator L?, comment Gegentakt-Entstördrossel differential mode choke
OC_FARNELL: unknown; OC_NEWARK: unknown
footprint B4
pins: 1, 4 2

## R2711FB34
designator L?, comment Gegentakt-Entstördrossel differential mode choke
OC_FARNELL: unknown; OC_NEWARK: unknown
footprint B34
pins: 5 1, 6 2

## R2711FB40
designator L?, comment Gegentakt-Entstördrossel differential mode choke
OC_FARNELL: unknown; OC_NEWARK: unknown
footprint B40
pins: 1, 4 2

## R2711FS40
designator L?, comment Gegentakt-Entstördrossel differential mode choke
OC_FARNELL: unknown; OC_NEWARK: unknown
footprint S40
pins: 5 1, 6 2

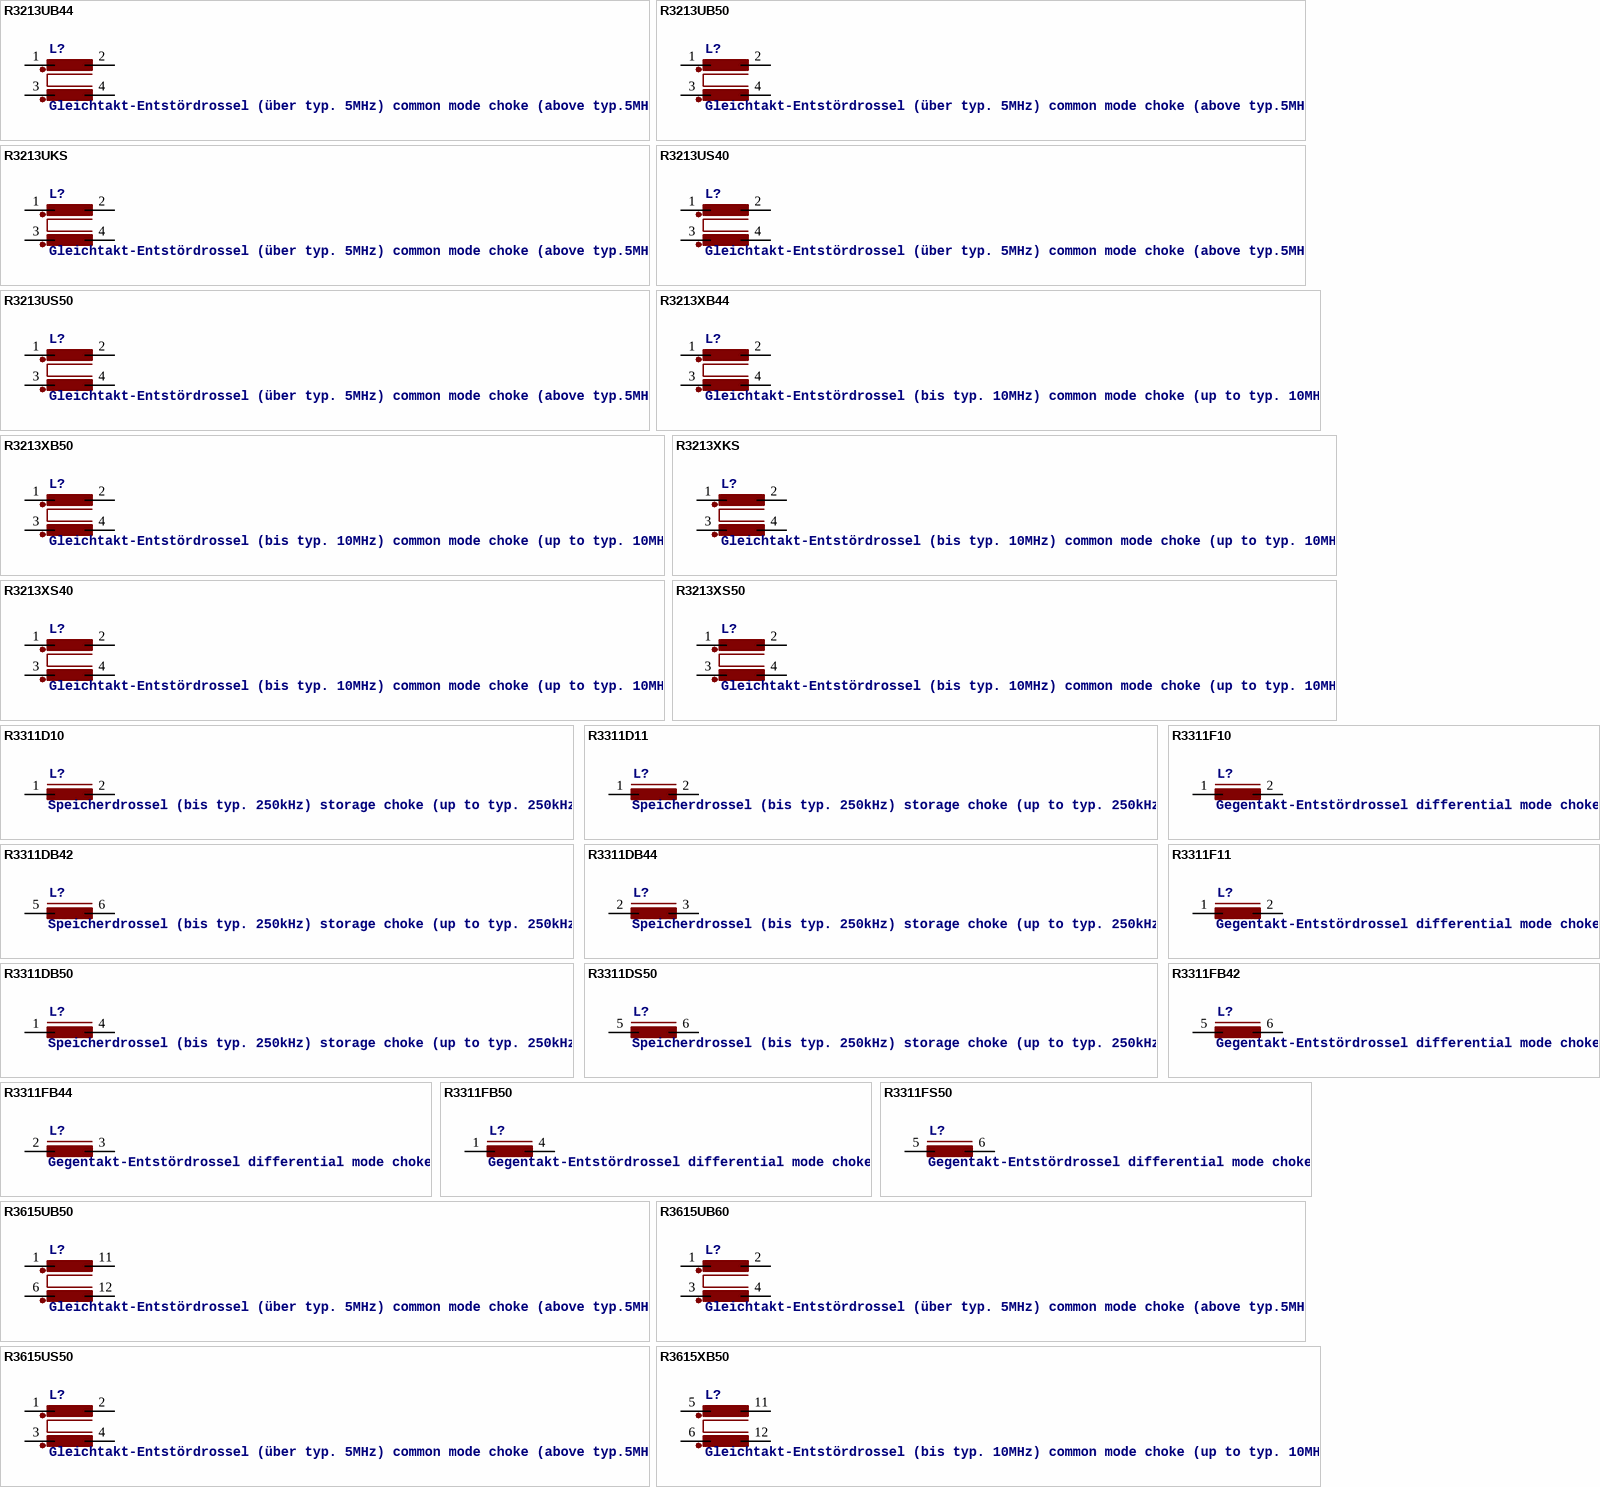
[diagram p5: symbols R3213UB44 to R3615XB50]

## R3213UB44
designator L?, comment Gleichtakt-Entstördrossel (über typ. 5MHz) common mode choke (above typ.5MHz)
OC_FARNELL: unknown; OC_NEWARK: unknown
footprint B44(ST)
pins: 1, 2, 3, 4

## R3213UB50
designator L?, comment Gleichtakt-Entstördrossel (über typ. 5MHz) common mode choke (above typ.5MHz)
OC_FARNELL: unknown; OC_NEWARK: unknown
footprint B50
pins: 1, 2, 3, 4

## R3213UKS
designator L?, comment Gleichtakt-Entstördrossel (über typ. 5MHz) common mode choke (above typ.5MHz)
OC_FARNELL: unknown; OC_NEWARK: unknown
footprint KS3213
pins: 1, 2, 3, 4

## R3213US40
designator L?, comment Gleichtakt-Entstördrossel (über typ. 5MHz) common mode choke (above typ.5MHz)
OC_FARNELL: unknown; OC_NEWARK: unknown
footprint S40
pins: 1, 2, 3, 4

## R3213US50
designator L?, comment Gleichtakt-Entstördrossel (über typ. 5MHz) common mode choke (above typ.5MHz)
OC_FARNELL: unknown; OC_NEWARK: unknown
footprint S50
pins: 1, 2, 3, 4

## R3213XB44
designator L?, comment Gleichtakt-Entstördrossel (bis typ. 10MHz) common mode choke (up to typ. 10MHz)
OC_FARNELL: unknown; OC_NEWARK: unknown
footprint B44(ST)
pins: 1, 2, 3, 4

## R3213XB50
designator L?, comment Gleichtakt-Entstördrossel (bis typ. 10MHz) common mode choke (up to typ. 10MHz)
OC_FARNELL: unknown; OC_NEWARK: unknown
footprint B50
pins: 1, 2, 3, 4

## R3213XKS
designator L?, comment Gleichtakt-Entstördrossel (bis typ. 10MHz) common mode choke (up to typ. 10MHz)
OC_FARNELL: unknown; OC_NEWARK: unknown
footprint KS3213
pins: 1, 2, 3, 4

## R3213XS40
designator L?, comment Gleichtakt-Entstördrossel (bis typ. 10MHz) common mode choke (up to typ. 10MHz)
OC_FARNELL: unknown; OC_NEWARK: unknown
footprint S40
pins: 1, 2, 3, 4

## R3213XS50
designator L?, comment Gleichtakt-Entstördrossel (bis typ. 10MHz) common mode choke (up to typ. 10MHz)
OC_FARNELL: unknown; OC_NEWARK: unknown
footprint S50
pins: 1, 2, 3, 4

## R3311D10
designator L?, comment Speicherdrossel (bis typ. 250kHz) storage choke (up to typ. 250kHz)
OC_FARNELL: unknown; OC_NEWARK: unknown
footprint 10-33
pins: 1, 2

## R3311D11
designator L?, comment Speicherdrossel (bis typ. 250kHz) storage choke (up to typ. 250kHz)
OC_FARNELL: unknown; OC_NEWARK: unknown
footprint 11-33
pins: 1, 2

## R3311DB42
designator L?, comment Speicherdrossel (bis typ. 250kHz) storage choke (up to typ. 250kHz)
OC_FARNELL: unknown; OC_NEWARK: unknown
footprint B42
pins: 5 1, 6 2

## R3311DB44
designator L?, comment Speicherdrossel (bis typ. 250kHz) storage choke (up to typ. 250kHz)
OC_FARNELL: unknown; OC_NEWARK: unknown
footprint B44
pins: 2 1, 3 2

## R3311DB50
designator L?, comment Speicherdrossel (bis typ. 250kHz) storage choke (up to typ. 250kHz)
OC_FARNELL: unknown; OC_NEWARK: unknown
footprint B50
pins: 1, 4 2

## R3311DS50
designator L?, comment Speicherdrossel (bis typ. 250kHz) storage choke (up to typ. 250kHz)
OC_FARNELL: unknown; OC_NEWARK: unknown
footprint S50
pins: 5 1, 6 2

## R3311F10
designator L?, comment Gegentakt-Entstördrossel differential mode choke
OC_FARNELL: unknown; OC_NEWARK: unknown
footprint 10-33
pins: 1, 2

## R3311F11
designator L?, comment Gegentakt-Entstördrossel differential mode choke
OC_FARNELL: unknown; OC_NEWARK: unknown
footprint 11-33
pins: 1, 2

## R3311FB42
designator L?, comment Gegentakt-Entstördrossel differential mode choke
OC_FARNELL: unknown; OC_NEWARK: unknown
footprint B42
pins: 5 1, 6 2

## R3311FB44
designator L?, comment Gegentakt-Entstördrossel differential mode choke
OC_FARNELL: unknown; OC_NEWARK: unknown
footprint B44
pins: 2 1, 3 2

## R3311FB50
designator L?, comment Gegentakt-Entstördrossel differential mode choke
OC_FARNELL: unknown; OC_NEWARK: unknown
footprint B50
pins: 1, 4 2

## R3311FS50
designator L?, comment Gegentakt-Entstördrossel differential mode choke
OC_FARNELL: unknown; OC_NEWARK: unknown
footprint S50
pins: 5 1, 6 2

## R3615UB50
designator L?, comment Gleichtakt-Entstördrossel (über typ. 5MHz) common mode choke (above typ.5MHz)
OC_FARNELL: unknown; OC_NEWARK: unknown
footprint B5O
pins: 1, 6 3, 11 2, 12 4

## R3615UB60
designator L?, comment Gleichtakt-Entstördrossel (über typ. 5MHz) common mode choke (above typ.5MHz)
OC_FARNELL: unknown; OC_NEWARK: unknown
footprint B60
pins: 1, 2, 3, 4

## R3615US50
designator L?, comment Gleichtakt-Entstördrossel (über typ. 5MHz) common mode choke (above typ.5MHz)
OC_FARNELL: unknown; OC_NEWARK: unknown
footprint S50
pins: 1, 2, 3, 4

## R3615XB50
designator L?, comment Gleichtakt-Entstördrossel (bis typ. 10MHz) common mode choke (up to typ. 10MHz)
OC_FARNELL: unknown; OC_NEWARK: unknown
footprint B5O
pins: 5 1, 6 3, 11 2, 12 4

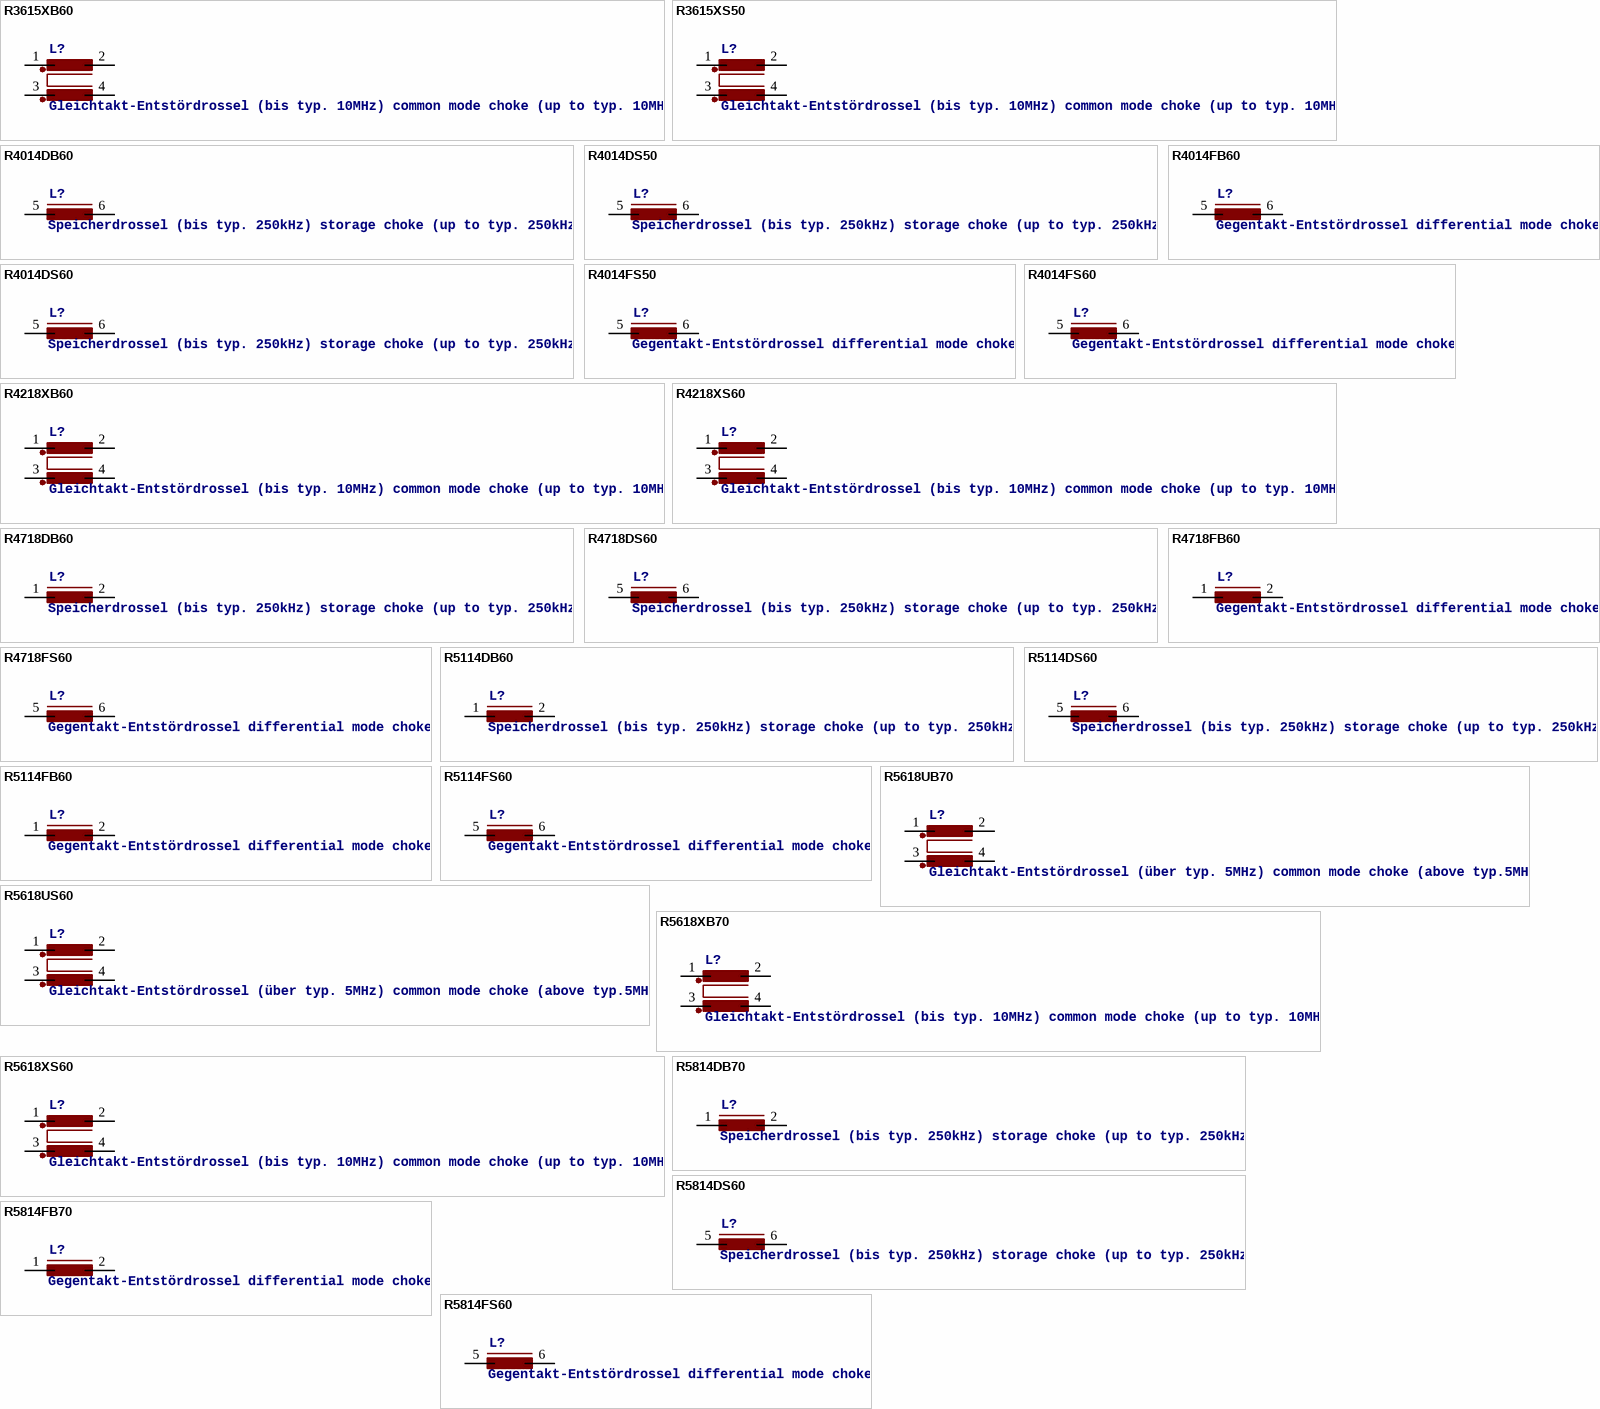
[diagram p6: symbols R3615XB60 to R5814FS60]

## R3615XB60
designator L?, comment Gleichtakt-Entstördrossel (bis typ. 10MHz) common mode choke (up to typ. 10MHz)
OC_FARNELL: unknown; OC_NEWARK: unknown
footprint B60
pins: 1, 2, 3, 4

## R3615XS50
designator L?, comment Gleichtakt-Entstördrossel (bis typ. 10MHz) common mode choke (up to typ. 10MHz)
OC_FARNELL: unknown; OC_NEWARK: unknown
footprint S50
pins: 1, 2, 3, 4

## R4014DB60
designator L?, comment Speicherdrossel (bis typ. 250kHz) storage choke (up to typ. 250kHz)
OC_FARNELL: unknown; OC_NEWARK: unknown
footprint B60
pins: 5 1, 6 2

## R4014DS50
designator L?, comment Speicherdrossel (bis typ. 250kHz) storage choke (up to typ. 250kHz)
OC_FARNELL: unknown; OC_NEWARK: unknown
footprint S50
pins: 5 1, 6 2

## R4014DS60
designator L?, comment Speicherdrossel (bis typ. 250kHz) storage choke (up to typ. 250kHz)
OC_FARNELL: unknown; OC_NEWARK: unknown
footprint S60
pins: 5 1, 6 2

## R4014FB60
designator L?, comment Gegentakt-Entstördrossel differential mode choke
OC_FARNELL: unknown; OC_NEWARK: unknown
footprint B60
pins: 5 1, 6 2

## R4014FS50
designator L?, comment Gegentakt-Entstördrossel differential mode choke
OC_FARNELL: unknown; OC_NEWARK: unknown
footprint S50
pins: 5 1, 6 2

## R4014FS60
designator L?, comment Gegentakt-Entstördrossel differential mode choke
OC_FARNELL: unknown; OC_NEWARK: unknown
footprint S60
pins: 5 1, 6 2

## R4218XB60
designator L?, comment Gleichtakt-Entstördrossel (bis typ. 10MHz) common mode choke (up to typ. 10MHz)
OC_FARNELL: unknown; OC_NEWARK: unknown
footprint B60
pins: 1, 2, 3, 4

## R4218XS60
designator L?, comment Gleichtakt-Entstördrossel (bis typ. 10MHz) common mode choke (up to typ. 10MHz)
OC_FARNELL: unknown; OC_NEWARK: unknown
footprint S60
pins: 1, 2, 3, 4

## R4718DB60
designator L?, comment Speicherdrossel (bis typ. 250kHz) storage choke (up to typ. 250kHz)
OC_FARNELL: unknown; OC_NEWARK: unknown
footprint B6O
pins: 1, 2

## R4718DS60
designator L?, comment Speicherdrossel (bis typ. 250kHz) storage choke (up to typ. 250kHz)
OC_FARNELL: unknown; OC_NEWARK: unknown
footprint S60
pins: 5 1, 6 2

## R4718FB60
designator L?, comment Gegentakt-Entstördrossel differential mode choke
OC_FARNELL: unknown; OC_NEWARK: unknown
footprint B6O
pins: 1, 2

## R4718FS60
designator L?, comment Gegentakt-Entstördrossel differential mode choke
OC_FARNELL: unknown; OC_NEWARK: unknown
footprint S60
pins: 5 1, 6 2

## R5114DB60
designator L?, comment Speicherdrossel (bis typ. 250kHz) storage choke (up to typ. 250kHz)
OC_FARNELL: unknown; OC_NEWARK: unknown
footprint B6O
pins: 1, 2

## R5114DS60
designator L?, comment Speicherdrossel (bis typ. 250kHz) storage choke (up to typ. 250kHz)
OC_FARNELL: unknown; OC_NEWARK: unknown
footprint S60
pins: 5 1, 6 2

## R5114FB60
designator L?, comment Gegentakt-Entstördrossel differential mode choke
OC_FARNELL: unknown; OC_NEWARK: unknown
footprint B6O
pins: 1, 2

## R5114FS60
designator L?, comment Gegentakt-Entstördrossel differential mode choke
OC_FARNELL: unknown; OC_NEWARK: unknown
footprint S60
pins: 5 1, 6 2

## R5618UB70
designator L?, comment Gleichtakt-Entstördrossel (über typ. 5MHz) common mode choke (above typ.5MHz)
OC_FARNELL: unknown; OC_NEWARK: unknown
footprint B70
pins: 1, 2, 3, 4

## R5618US60
designator L?, comment Gleichtakt-Entstördrossel (über typ. 5MHz) common mode choke (above typ.5MHz)
OC_FARNELL: unknown; OC_NEWARK: unknown
footprint S60
pins: 1, 2, 3, 4

## R5618XB70
designator L?, comment Gleichtakt-Entstördrossel (bis typ. 10MHz) common mode choke (up to typ. 10MHz)
OC_FARNELL: unknown; OC_NEWARK: unknown
footprint B70
pins: 1, 2, 3, 4

## R5618XS60
designator L?, comment Gleichtakt-Entstördrossel (bis typ. 10MHz) common mode choke (up to typ. 10MHz)
OC_FARNELL: unknown; OC_NEWARK: unknown
footprint S60
pins: 1, 2, 3, 4

## R5814DB70
designator L?, comment Speicherdrossel (bis typ. 250kHz) storage choke (up to typ. 250kHz)
OC_FARNELL: unknown; OC_NEWARK: unknown
footprint B70
pins: 1, 2

## R5814DS60
designator L?, comment Speicherdrossel (bis typ. 250kHz) storage choke (up to typ. 250kHz)
OC_FARNELL: unknown; OC_NEWARK: unknown
footprint S60
pins: 5 1, 6 2

## R5814FB70
designator L?, comment Gegentakt-Entstördrossel differential mode choke
OC_FARNELL: unknown; OC_NEWARK: unknown
footprint B70
pins: 1, 2

## R5814FS60
designator L?, comment Gegentakt-Entstördrossel differential mode choke
OC_FARNELL: unknown; OC_NEWARK: unknown
footprint S60
pins: 5 1, 6 2